# Altium schematic symbol library 61729-1011BLF.SchLib: 1 symbol
Pins are listed as number, name and electrical type; pins without a type are passive.

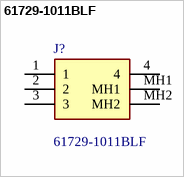
[diagram p0: symbol 61729-1011BLF]

## 61729-1011BLF
designator J?
USB-B (USB TYPE-B) USB 2.0 Receptacle Connector 4 Position Through Hole, Right Angle; Manufacturer_Name: Amphenol Communications Solutions; Geometry.Height: 11.5mm; Mouser Part Number: 649-61729-1011BLF; Mouser Price/Stock: https://www.mouser.co.uk/ProductDetail/Amphenol-FCI/61729-1011BLF?qs=zxzm42eeoPNCjU%2FpHflioA%3D%3D; Manufacturer_Part_Number: 61729-1011BLF; Datasheet Link: https://www.amphenol-cs.com/media/wysiwyg/files/drawing/61729.pdf
footprint 617291011BLF
pins: 1, 2, 3, 4, MH1, MH2